# EAGLE library part SLA-05VDC-SL-C (library SLA-05VDC-SL-C)
Relays General Purpose Non Latching 5VDC SPDT 30A (250VAC) Max Plugin RoHS Source: Datasheet <https://datasheet.lcsc.com/szlcsc/Ningbo-Songle-Relay-SLA-05VDC-SL-C_C87367.pdf>
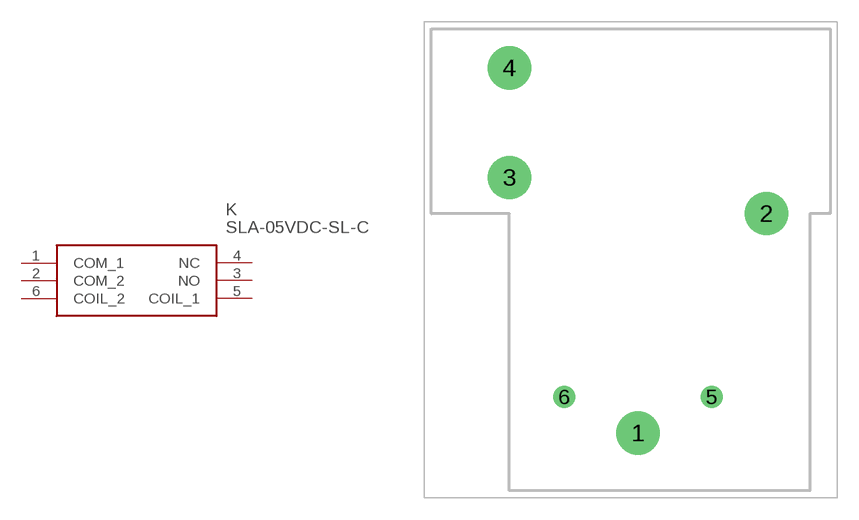
[diagram p0: symbol with the pads of SLA05VDCSLC; footprint SLA05VDCSLC]

Designator prefix K

## SLA-05VDC-SL-C (DESCRIPTION: Relays General Purpose Non Latching 5VDC SPDT 30A (250VAC) Max Plugin RoHS; HEIGHT: 20.4mm; MANUFACTURER_NAME: Songle Relay; MANUFACTURER_PART_NUMBER: SLA-05VDC-SL-C)  [SLA05VDCSLC]
1  COM_1
2  COM_2
3  NO
4  NC  nc
5  COIL_1
6  COIL_2

## Footprint SLA05VDCSLC (pad centres in mm)
SLA-05VDC-SL-C-4
drill 2 pad 3: 1 0,0; 2 8.9,15.2; 3 -8.9,17.7; 4 -8.9,25.3
drill 1 pad 1.5: 5 5.1,2.5; 6 -5.1,2.5